# Altium footprint library chill_pcblib.PcbLib: 8 footprints
Each footprint in its own frame and in the unit in brackets; x right, y up, seen from the top. Pads: shape width x height; smd on the part's side, far side on the other; paste and mask are expansions set on the pad; w line width, h text height; cw(c..) or ccw(c..) is an arc to the next point about the centre after c.
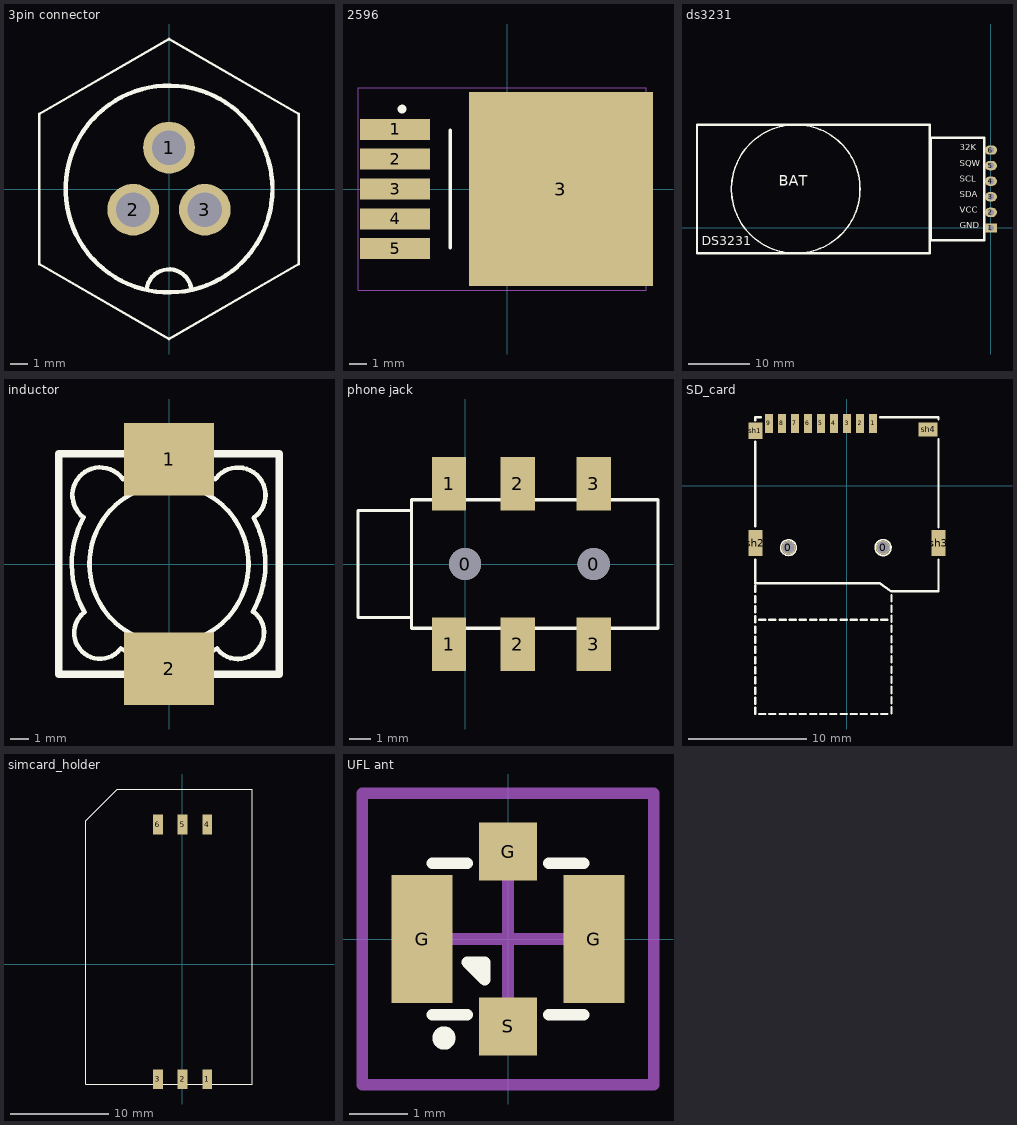
[diagram p0: the footprints below, top view; thin cyan lines are the x and y axes]

## 3pin connector [mm]
pads (3):
  round 3 hole 2: 1(0,2.4) 2(-2.078,-1.2) 3(2.078,-1.2)
Top Overlay:
  circle w0.254: c0,0 r6
  lines w0.15: -7.534,-4.35 -7.534,4.35 0,8.7 7.534,4.35 7.534,-4.35 0,-8.7 -7.534,-4.35
  lines w0.254: -1.292,-5.77 cw(c0,-5.969) 1.286,-5.735

## 2596 [mm]
pads (6):
  rect 4x1.2 smd: 1(-6.4,3.4) 2(-6.4,1.7) 3(-6.4,0) 4(-6.4,-1.7) 5(-6.4,-3.4)
  rect 10.5x11.05 smd: 3(3.048,0)
Top Overlay:
  circle w0.25: c-6,4.55 r0.125
  lines w0.2: -3.25,-3.35 -3.25,3.35
Mechanical 13:
  lines w0.1: -2.05,-3.35 4.15,-3.35 4.15,3.35 -2.05,3.35 -2.05,-3.35
Mechanical 15:
  lines w0.05: -8.509,-5.775 7.9,-5.775 7.9,5.775 -8.509,5.775 -8.509,-5.775
  lines w0.1: -0.5,0 0.5,0 ; 0,-0.5 0,0.5
3D body: height 2.38, standoff 0, extent -2.05,-3.35 4.15,3.35

## ds3231 [mm]
pads (6):
  rect 2x1.5 hole 1: 1(0,0)
  oval 2x1.5 hole 1: 2(0,2.54) 3(0,5.08) 4(0,7.62) 5(0,10.16) 6(0,12.7)
Top Overlay:
  circle w0.254: c-31.877,6.35 r10.5
  lines w0.4: -48,-4.15 -48,16.85 -10,16.85 -10,-4.15 -48,-4.15 ; -9.8,-2 -9.8,14.7 -1.05,14.7 -1.05,-2 -9.8,-2
  text "BAT" at -34.671,6.35 h3
  text "GND" at -5.08,-0.381 h1.7
  text "VCC" at -5.08,2.159 h1.7
  text "SDA" at -5.08,4.699 h1.7
  text "SCL" at -5.08,7.239 h1.7
  text "SQW" at -5.08,9.779 h1.7
  text "32K" at -5.08,12.319 h1.7
  text "DS3231" at -47.244,-3.302 h2.54

## inductor [mm]
pads (2):
  rect 5x4 smd: 1(0,5.8) 2(0,-5.8)
Top Overlay:
  circle w0.254: c0,0 r4.401
  lines w0.254: -4.752,2.599 cw(c-3.81,3.81) -2.595,4.747 ; -4.722,2.582 ccw(c0,0) -4.675,-2.666 ; -4.692,-2.676 ccw(c-3.81,-3.81) -2.688,-4.708 ; -2.669,-4.674 ccw(c0,0) 2.667,-4.675 ; -2.565,4.692 cw(c0,0) 2.57,4.689 ; 2.603,4.749 cw(c3.81,3.81) 4.687,2.557 ; 2.711,-4.752 ccw(c3.81,-3.81) 4.715,-2.679 ; 4.639,-2.636 ccw(c0,0) 4.684,2.555
  lines w0.4: -6.1,-6.1 6.1,-6.1 6.1,6.1 -6.1,6.1 -6.1,-6.1
3D body "SUMIDA-CDRH127-DEFAULT.STEP": height 7.5, standoff 0.05, extent -6,-6.171 6,6.171

## phone jack [mm]
pads (8):
  round 1.5 hole 1.5: 0(0,0) 0(6,0)
  rect 1.6x2.5 smd: 1(-0.75,-3.75) 1(-0.75,3.75) 2(2.45,-3.75) 2(2.45,3.75) 3(6,-3.75) 3(6,3.75)
Top Overlay:
  lines w0.15: -2.5,-2.5 -5,-2.5 -5,2.5 -2.5,2.5 ; -2.5,-3 -2.5,3 9,3 9,-3 -2.5,-3

## SD_card [mm]
pads (15):
  round 1.2 hole 1: 0(-4.95,-5.25) 0(3.05,-5.25)
  rect 0.7x1.6 smd: 1(2.2,5.25) 2(1.1,5.25) 3(0,5.25) 4(-1.1,5.25) 5(-2.2,5.25) 6(-3.3,5.25) 7(-4.4,5.25) 8(-5.5,5.25) 9(-6.6,5.25)
  rect 1.2x1.4 smd: sh1(-7.75,4.65)
  rect 1.2x2.2 smd: sh2(-7.75,-4.85) sh3(7.75,-4.85)
  rect 1.6x1.2 smd: sh4(6.85,4.75)
Top Overlay:
  lines w0.15: -4.297,-5.141 ccw(c-4.95,-5.25) -4.295,-5.151 ; 3.714,-5.187 ccw(c3.05,-5.25) 3.717,-5.261
  lines w0.2: -7.77,-19.32 -7.77,-18.8 ; -7.77,-18.46 -7.77,-17.94 ; -7.77,-17.6 -7.77,-17.08 ; -7.77,-16.74 -7.77,-16.22 ; -7.77,-15.88 -7.77,-15.36 ; -7.77,-15.02 -7.77,-14.5 ; -7.77,-14.16 -7.77,-13.64 ; -7.77,-13.3 -7.77,-12.78 ; -7.77,-12.44 -7.77,-11.92 ; -7.77,-11.58 -7.77,-11.06 ; -7.77,-10.72 -7.77,-10.2 ; -7.77,-9.86 -7.77,-9.34 ; -7.77,-8.98 -7.77,-8.46 ; -7.76,-6.26 -7.76,-8.25 2.75,-8.25 3.76,-8.95 7.74,-8.95 7.74,-6.25 ; -7.76,-3.45 -7.76,3.72 ; -7.76,5.52 -7.76,5.77 -7.28,5.77 ; -7.43,-19.32 -6.91,-19.32 ; -7.43,-11.35 -6.91,-11.35 ; -6.57,-19.32 -6.05,-19.32 ; -6.57,-11.35 -6.05,-11.35 ; -5.71,-19.32 -5.19,-19.32 ; -5.71,-11.35 -5.19,-11.35 ; -4.85,-19.32 -4.33,-19.32 ; -4.85,-11.35 -4.33,-11.35 ; -3.99,-19.32 -3.47,-19.32 ; -3.99,-11.35 -3.47,-11.35 ; -3.13,-19.32 -2.61,-19.32 ; -3.13,-11.35 -2.61,-11.35 ; -2.27,-19.32 -1.75,-19.32 ; -2.27,-11.35 -1.75,-11.35 ; -1.41,-19.32 -0.89,-19.32 ; -1.41,-11.35 -0.89,-11.35 ; -0.55,-19.32 -0.03,-19.32 ; -0.55,-11.35 -0.03,-11.35 ; 0.31,-19.32 0.83,-19.32 ; 0.31,-11.35 0.83,-11.35 ; 1.17,-19.32 1.69,-19.32 ; 1.17,-11.35 1.69,-11.35 ; 2.03,-19.32 2.55,-19.32 ; 2.03,-11.35 2.55,-11.35 ; 2.82,5.77 7.74,5.77 7.74,5.59 ; 2.89,-19.32 3.41,-19.32 ; 2.89,-11.35 3.41,-11.35 ; 3.76,-19.27 3.76,-18.75 ; 3.76,-18.41 3.76,-17.89 ; 3.76,-17.55 3.76,-17.03 ; 3.76,-16.69 3.76,-16.17 ; 3.76,-15.83 3.76,-15.31 ; 3.76,-14.97 3.76,-14.45 ; 3.76,-14.11 3.76,-13.59 ; 3.76,-13.25 3.76,-12.73 ; 3.76,-12.39 3.76,-11.87 ; 3.76,-11.53 3.76,-11.01 ; 3.76,-10.67 3.76,-10.15 ; 3.76,-9.81 3.76,-9.29 ; 7.74,-3.53 7.74,3.9
3D body: height 1, standoff 0.5, extent -7.785,-8.98 7.74,5.815

## simcard_holder [mm]
pads (6):
  rect 1x2 smd: 1(2.521,-11.662) 2(0.021,-11.662) 3(-2.479,-11.662) 4(2.521,14.138) 5(0.021,14.138) 6(-2.479,14.138)
Top Overlay:
  lines w0.1: -9.779,-12.192 -9.779,14.538 -8.979,15.338 -7.379,16.938 -6.579,17.738 7.071,17.738 7.071,-12.192 -9.779,-12.192
3D body "User Library-SIM5060-6-0-26-01-A.STEP": height 2.6, standoff -0.7, extent -9.829,-11.932 7.371,17.708

## UFL ant [mm]
pads (4):
  rect 1.05x2.2 smd: G(-1.475,0) G(1.475,0)
  rect 1x1 smd: G(0,1.5) S(0,-1.5)
Top Overlay:
  circle w0.2: c-1.1,-1.7 r0.1
  lines w0.2: -1.3,-1.3 -0.7,-1.3 ; -1.3,1.3 -0.7,1.3 ; 0.7,-1.3 1.3,-1.3 ; 0.7,1.3 1.3,1.3 ; -0.7,-0.4 -0.4,-0.4 -0.4,-0.7 -0.7,-0.4
Mechanical 15:
  lines w0.2: -1,0 1,0 ; 0,-1 0,1 ; -2.5,-2.5 -2.5,2.5 2.5,2.5 2.5,-2.5 -2.5,-2.5
3D body "Molex 734120110.STEP": height 1.3, standoff 0, extent -1.5,-1.54 1.5,1.54